# EAGLE library part DRV8825 (library draradech)
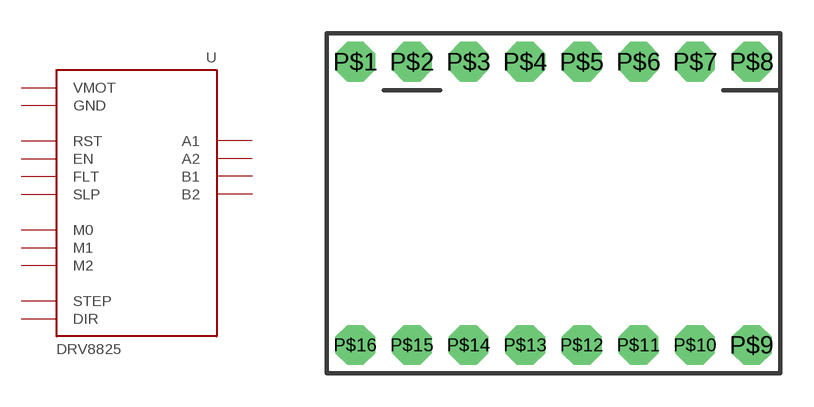
[diagram p3: symbol with the pads of DRV8825; footprint DRV8825]

Designator prefix U

## DRV8825  [DRV8825]
P$1  VMOT
P$2  GND
P$3  B2
P$4  B1
P$5  A1
P$6  A2
P$7  FLT
P$8  GND
P$9  DIR
P$10  STEP
P$11  SLP
P$12  RST
P$13  M2
P$14  M1
P$15  M0
P$16  EN

## Footprint DRV8825 (pad centres in mm)
drill 1 pad 1.778 octagon: P$1 0,0; P$2 2.54,0; P$3 5.08,0; P$4 7.62,0; P$5 10.16,0; P$6 12.7,0; P$7 15.24,0; P$8 17.78,0; P$9 17.78,-12.7; P$10 15.24,-12.7; P$11 12.7,-12.7; P$12 10.16,-12.7; P$13 7.62,-12.7; P$14 5.08,-12.7; P$15 2.54,-12.7; P$16 0,-12.7